# EAGLE library part JON_LIB_MAX3221-RS232 (library MAAV_13v1)
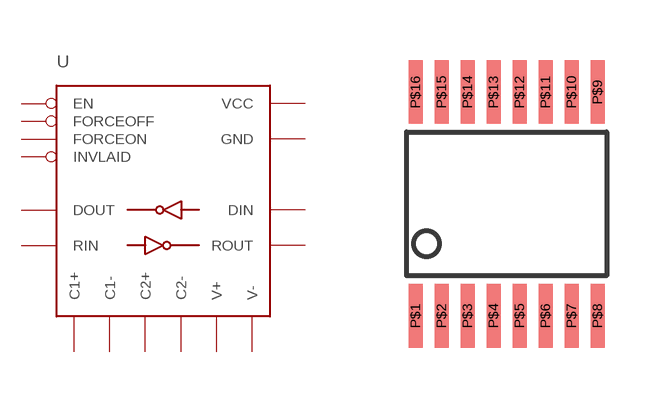
[diagram p1: symbol with the pads of JON_LIB_16-TSSOP; footprint JON_LIB_16-TSSOP]

Designator prefix -

## JON_LIB_MAX3221-RS232  [JON_LIB_16-TSSOP]
P$1  EN  in
P$2  C1+  pas
P$3  V+  pas
P$4  C1-  pas
P$5  C2+  pas
P$6  C2-  pas
P$7  V-  pas
P$8  RIN  in
P$9  ROUT  out
P$10  INVLAID  out
P$11  DIN  in
P$12  FORCEON  in
P$13  DOUT  out
P$14  GND  pwr
P$15  VCC  pwr
P$16  FORCEOFF  in

## Footprint JON_LIB_16-TSSOP (pad centres in mm)
smd 0.35 x 1.6: P$1 -2.275,-2.8; P$2 -1.625,-2.8; P$3 -0.975,-2.8; P$4 -0.325,-2.8; P$5 0.325,-2.8; P$6 0.975,-2.8; P$7 1.625,-2.8; P$8 2.275,-2.8; P$9 2.275,2.8; P$10 1.625,2.8; P$11 0.975,2.8; P$12 0.325,2.8; P$13 -0.325,2.8; P$14 -0.975,2.8; P$15 -1.625,2.8; P$16 -2.275,2.8